# Altium schematic symbol library ON Semi JFETs.SchLib: 93 symbols (part 2 of 2)
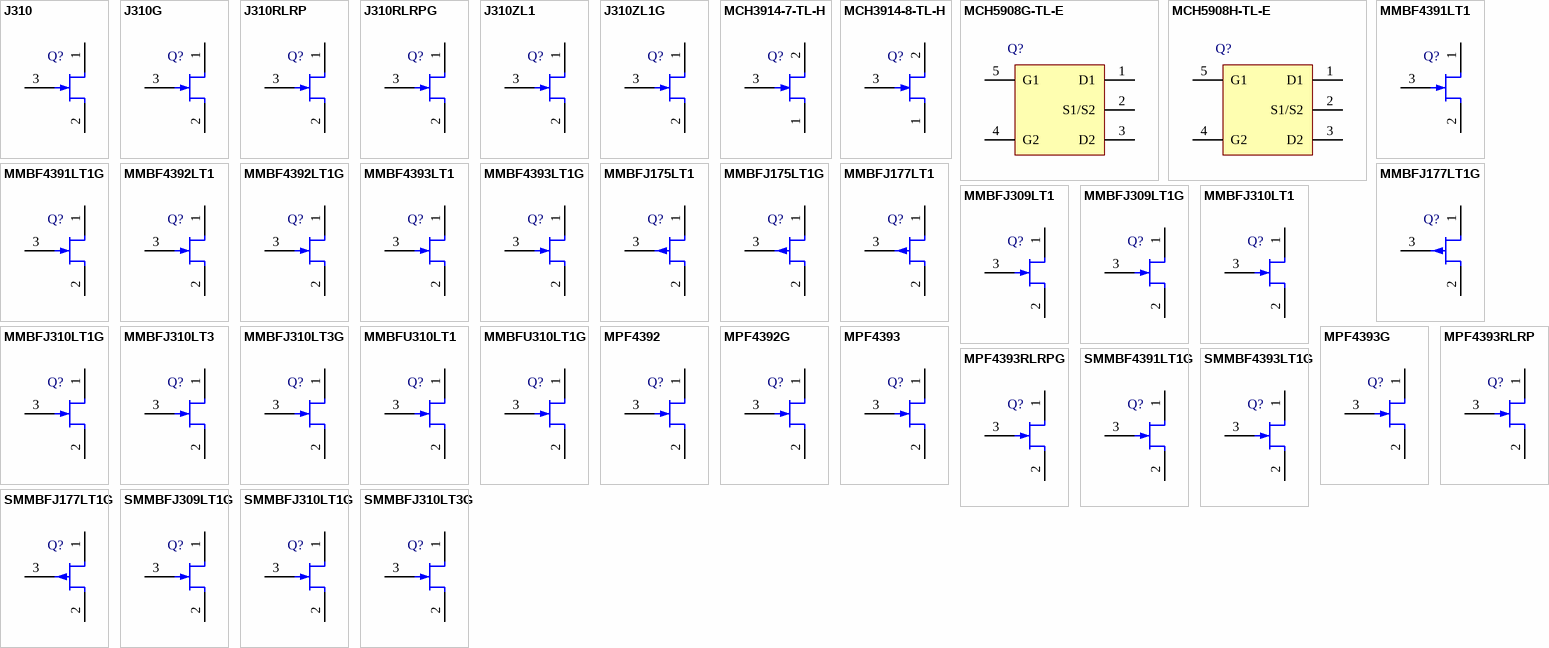
[diagram p3: symbols J310 to SMMBFJ310LT3G]

## MCH5908H-TL-E
designator Q?
N-Channel JFET, 15 V, 16 to 32 mA, 35 mS, 5-Pin MCPH, Pb-Free, Tape and Reel; Manufacturer: On Semiconductor; PartNumber: MCH5908H-TL-E; Channel Polarity: N Channel; IDSS Max (uA): 32000; IDSS Min (uA): 16000; V(BR)GSS Min (V): 15; PackageReference: MCPH-5; PackageDescription: 5-Pin Small Outline Transistor, Body 2 x 1.6 mm, Pitch 0.65 mm; Supplier 1: Digi-Key; Supplier Part Number 1: MCH5908H-TL-E-ND; Supplier 2: Mouser; Supplier Part Number 2: 863-MCH5908H-TL-E; Packing: Tape and Reel; RoHS: Pb-Free; Mounting Technology: Surface Mount; ComponentLink1Description: Manufacturer URL; ComponentLink1URL: http://www.onsemi.com/; ComponentLink2Description: Datasheet; ComponentLink2URL: http://www.onsemi.com/pub_link/Collateral/ENA1218-D.PDF; ComponentLink3Description: Package Specification; ComponentLink3URL: http://www.onsemi.com/pub_link/Collateral/ENA1218-D.PDF
footprint ONSC-MCPH-5_V (SOT23, 5-Leads, Body 2x1.6mm, Pitch 0.65mm)
pins: 1 D1, 2 S1/S2, 3 D2, 4 G2, 5 G1

## MMBF4391LT1
designator Q?
JFET Switching Transistor, N-Channel, 3-Pin SOT-23, Tape and Reel; Manufacturer: On Semiconductor; PartNumber: MMBF4391LT1; Channel Polarity: N Channel; Ciss Max (pF): 14; Crss Max (pF): 3.5; IDSS Max (uA): 150000; IDSS Min (uA): 50000; V(BR)GSS Min (V): 30; DatasheetVersion: Rev. 10; PackageVersion: Rev. AP, 11/2009; PackageReference: SOT-23-3-318-08; PackageDescription: 3-Pin Small Outline Transistor, Body 2.92 x 1.3 mm, Pitch 0.95 mm; Supplier 1: Digi-Key; Supplier Part Number 1: MMBF4391LT1OSCT-ND; Packing: Tape and Reel; Mounting Technology: Surface Mount; ComponentLink1Description: Manufacturer URL; ComponentLink1URL: http://www.onsemi.com/; ComponentLink2Description: Datasheet; ComponentLink2URL: http://www.onsemi.com/pub_link/Collateral/MMBF4391LT1-D.PDF; ComponentLink3Description: Package Specification; ComponentLink3URL: http://www.onsemi.cn/pub_link/Collateral/318-08.PDF
footprint ONSC-SOT-23-3-318-08_V (SOT23, 3-Leads, Body 2.92x1.3mm, Pitch 0.95mm)
pins: 1 D, 2 S, 3 G

## MMBF4391LT1G
designator Q?
JFET Switching Transistor, N-Channel, 3-Pin SOT-23, Pb-Free, Tape and Reel; Manufacturer: On Semiconductor; PartNumber: MMBF4391LT1G; Channel Polarity: N Channel; Ciss Max (pF): 14; Crss Max (pF): 3.5; IDSS Max (uA): 150000; IDSS Min (uA): 50000; V(BR)GSS Min (V): 30; DatasheetVersion: Rev. 10; PackageVersion: Rev. AP, 11/2009; PackageReference: SOT-23-3-318-08; PackageDescription: 3-Pin Small Outline Transistor, Body 2.92 x 1.3 mm, Pitch 0.95 mm; Supplier 1: Digi-Key; Supplier Part Number 1: MMBF4391LT1GOSTR-ND; Supplier 2: Digi-Key; Supplier Part Number 2: MMBF4391LT1GOSCT-ND; Supplier 3: Digi-Key; Supplier Part Number 3: MMBF4391LT1GOSDKR-ND; Supplier 4: Farnell; Supplier Part Number 4: 1431329RL; Supplier 5: Newark; Supplier Part Number 5: 45J1523; Supplier 6: Mouser; Supplier Part Number 6: 863-MMBF4391LT1G; Packing: Tape and Reel; RoHS: Pb-Free; Mounting Technology: Surface Mount; ComponentLink1Description: Manufacturer URL; ComponentLink1URL: http://www.onsemi.com/; ComponentLink2Description: Datasheet; ComponentLink2URL: http://www.onsemi.com/pub_link/Collateral/MMBF4391LT1-D.PDF; ComponentLink3Description: Package Specification; ComponentLink3URL: http://www.onsemi.cn/pub_link/Collateral/318-08.PDF
footprint ONSC-SOT-23-3-318-08_V (SOT23, 3-Leads, Body 2.92x1.3mm, Pitch 0.95mm)
pins: 1 D, 2 S, 3 G

## MMBF4392LT1
designator Q?
JFET Switching Transistor, N-Channel, 3-Pin SOT-23, Tape and Reel; Manufacturer: On Semiconductor; PartNumber: MMBF4392LT1; Channel Polarity: N Channel; Ciss Max (pF): 14; Crss Max (pF): 3.5; IDSS Max (uA): 75000; IDSS Min (uA): 25000; V(BR)GSS Min (V): 30; DatasheetVersion: Rev. 10; PackageVersion: Rev. AP, 11/2009; PackageReference: SOT-23-3-318-08; PackageDescription: 3-Pin Small Outline Transistor, Body 2.92 x 1.3 mm, Pitch 0.95 mm; Supplier 1: Digi-Key; Supplier Part Number 1: MMBF4392LT1OSCT-ND; Packing: Tape and Reel; Mounting Technology: Surface Mount; ComponentLink1Description: Manufacturer URL; ComponentLink1URL: http://www.onsemi.com/; ComponentLink2Description: Datasheet; ComponentLink2URL: http://www.onsemi.com/pub_link/Collateral/MMBF4391LT1-D.PDF; ComponentLink3Description: Package Specification; ComponentLink3URL: http://www.onsemi.cn/pub_link/Collateral/318-08.PDF
footprint ONSC-SOT-23-3-318-08_V (SOT23, 3-Leads, Body 2.92x1.3mm, Pitch 0.95mm)
pins: 1 D, 2 S, 3 G

## MMBF4392LT1G
designator Q?
JFET Switching Transistor, N-Channel, 3-Pin SOT-23, Pb-Free, Tape and Reel; Manufacturer: On Semiconductor; PartNumber: MMBF4392LT1G; Channel Polarity: N Channel; Ciss Max (pF): 14; Crss Max (pF): 3.5; IDSS Max (uA): 75000; IDSS Min (uA): 25000; V(BR)GSS Min (V): 30; DatasheetVersion: Rev. 10; PackageVersion: Rev. AP, 11/2009; PackageReference: SOT-23-3-318-08; PackageDescription: 3-Pin Small Outline Transistor, Body 2.92 x 1.3 mm, Pitch 0.95 mm; Supplier 1: Digi-Key; Supplier Part Number 1: MMBF4392LT1GOSTR-ND; Supplier 2: Digi-Key; Supplier Part Number 2: MMBF4392LT1GOSCT-ND; Supplier 3: Digi-Key; Supplier Part Number 3: MMBF4392LT1GOSDKR-ND; Supplier 4: Farnell; Supplier Part Number 4: 1431331RL; Supplier 5: Farnell; Supplier Part Number 5: 1431331; Supplier 6: Newark; Supplier Part Number 6: 71J5987; Supplier 7: Mouser; Supplier Part Number 7: 863-MMBF4392LT1G; Packing: Tape and Reel; RoHS: Pb-Free; Mounting Technology: Surface Mount; ComponentLink1Description: Manufacturer URL; ComponentLink1URL: http://www.onsemi.com/; ComponentLink2Description: Datasheet; ComponentLink2URL: http://www.onsemi.com/pub_link/Collateral/MMBF4391LT1-D.PDF; ComponentLink3Description: Package Specification; ComponentLink3URL: http://www.onsemi.cn/pub_link/Collateral/318-08.PDF
footprint ONSC-SOT-23-3-318-08_V (SOT23, 3-Leads, Body 2.92x1.3mm, Pitch 0.95mm)
pins: 1 D, 2 S, 3 G

## MMBF4393LT1
designator Q?
JFET Switching Transistor, N-Channel, 3-Pin SOT-23, Tape and Reel; Manufacturer: On Semiconductor; PartNumber: MMBF4393LT1; Channel Polarity: N Channel; Ciss Max (pF): 14; Crss Max (pF): 3.5; IDSS Max (uA): 30000; IDSS Min (uA): 5000; V(BR)GSS Min (V): 30; DatasheetVersion: Rev. 10; PackageVersion: Rev. AP, 11/2009; PackageReference: SOT-23-3-318-08; PackageDescription: 3-Pin Small Outline Transistor, Body 2.92 x 1.3 mm, Pitch 0.95 mm; Supplier 1: Digi-Key; Supplier Part Number 1: MMBF4393LT1OSCT-ND; Packing: Tape and Reel; Mounting Technology: Surface Mount; ComponentLink1Description: Manufacturer URL; ComponentLink1URL: http://www.onsemi.com/; ComponentLink2Description: Datasheet; ComponentLink2URL: http://www.onsemi.com/pub_link/Collateral/MMBF4391LT1-D.PDF; ComponentLink3Description: Package Specification; ComponentLink3URL: http://www.onsemi.cn/pub_link/Collateral/318-08.PDF
footprint ONSC-SOT-23-3-318-08_V (SOT23, 3-Leads, Body 2.92x1.3mm, Pitch 0.95mm)
pins: 1 D, 2 S, 3 G

## MMBF4393LT1G
designator Q?
JFET Switching Transistor, N-Channel, 3-Pin SOT-23, Pb-Free, Tape and Reel; Manufacturer: On Semiconductor; PartNumber: MMBF4393LT1G; Channel Polarity: N Channel; Ciss Max (pF): 14; Crss Max (pF): 3.5; IDSS Max (uA): 30000; IDSS Min (uA): 5000; V(BR)GSS Min (V): 30; DatasheetVersion: Rev. 10; PackageVersion: Rev. AP, 11/2009; PackageReference: SOT-23-3-318-08; PackageDescription: 3-Pin Small Outline Transistor, Body 2.92 x 1.3 mm, Pitch 0.95 mm; Supplier 1: Digi-Key; Supplier Part Number 1: MMBF4393LT1GOSTR-ND; Supplier 2: Digi-Key; Supplier Part Number 2: MMBF4393LT1GOSCT-ND; Supplier 3: Digi-Key; Supplier Part Number 3: MMBF4393LT1GOSDKR-ND; Supplier 4: Farnell; Supplier Part Number 4: 1431332RL; Supplier 5: Farnell; Supplier Part Number 5: 1431332; Supplier 6: Newark; Supplier Part Number 6: 45J1524; Supplier 7: Mouser; Supplier Part Number 7: 863-MMBF4393LT1G; Packing: Tape and Reel; RoHS: Pb-Free; Mounting Technology: Surface Mount; ComponentLink1Description: Manufacturer URL; ComponentLink1URL: http://www.onsemi.com/; ComponentLink2Description: Datasheet; ComponentLink2URL: http://www.onsemi.com/pub_link/Collateral/MMBF4391LT1-D.PDF; ComponentLink3Description: Package Specification; ComponentLink3URL: http://www.onsemi.cn/pub_link/Collateral/318-08.PDF
footprint ONSC-SOT-23-3-318-08_V (SOT23, 3-Leads, Body 2.92x1.3mm, Pitch 0.95mm)
pins: 1 D, 2 S, 3 G

## MMBFJ175LT1
designator Q?
JFET Chopper, P-Channel - Depletion, 3-Pin SOT-23, Tape and Reel; Manufacturer: On Semiconductor; PartNumber: MMBFJ175LT1; Channel Polarity: P Channel; Ciss Max (pF): 11; Crss Max (pF): 5.5; IDSS Max (uA): 60000; IDSS Min (uA): 7000; V(BR)GSS Min (V): 30; DatasheetVersion: Rev. 5; PackageVersion: Rev. AP, 11/2009; PackageReference: SOT-23-3-318-08; PackageDescription: 3-Pin Small Outline Transistor, Body 2.92 x 1.3 mm, Pitch 0.95 mm; Supplier 1: Digi-Key; Supplier Part Number 1: MMBFJ175LT1OSCT-ND; Packing: Tape and Reel; Mounting Technology: Surface Mount; ComponentLink1Description: Manufacturer URL; ComponentLink1URL: http://www.onsemi.com/; ComponentLink2Description: Datasheet; ComponentLink2URL: http://www.onsemi.com/pub_link/Collateral/MMBFJ175LT1-D.PDF; ComponentLink3Description: Package Specification; ComponentLink3URL: http://www.onsemi.cn/pub_link/Collateral/318-08.PDF
footprint ONSC-SOT-23-3-318-08_V (SOT23, 3-Leads, Body 2.92x1.3mm, Pitch 0.95mm)
pins: 1 D, 2 S, 3 G

## MMBFJ175LT1G
designator Q?
JFET Chopper, P-Channel - Depletion, 3-Pin SOT-23, Pb-Free, Tape and Reel; Manufacturer: On Semiconductor; PartNumber: MMBFJ175LT1G; Channel Polarity: P Channel; Ciss Max (pF): 11; Crss Max (pF): 5.5; IDSS Max (uA): 60000; IDSS Min (uA): 7000; V(BR)GSS Min (V): 30; DatasheetVersion: Rev. 5; PackageVersion: Rev. AP, 11/2009; PackageReference: SOT-23-3-318-08; PackageDescription: 3-Pin Small Outline Transistor, Body 2.92 x 1.3 mm, Pitch 0.95 mm; Supplier 1: Digi-Key; Supplier Part Number 1: MMBFJ175LT1GOSTR-ND; Supplier 2: Digi-Key; Supplier Part Number 2: MMBFJ175LT1GOSCT-ND; Supplier 3: Digi-Key; Supplier Part Number 3: MMBFJ175LT1GOSDKR-ND; Supplier 4: Newark; Supplier Part Number 4: 45J1517; Supplier 5: Mouser; Supplier Part Number 5: 863-MMBFJ175LT1G; Packing: Tape and Reel; RoHS: Pb-Free; Mounting Technology: Surface Mount; ComponentLink1Description: Manufacturer URL; ComponentLink1URL: http://www.onsemi.com/; ComponentLink2Description: Datasheet; ComponentLink2URL: http://www.onsemi.com/pub_link/Collateral/MMBFJ175LT1-D.PDF; ComponentLink3Description: Package Specification; ComponentLink3URL: http://www.onsemi.cn/pub_link/Collateral/318-08.PDF
footprint ONSC-SOT-23-3-318-08_V (SOT23, 3-Leads, Body 2.92x1.3mm, Pitch 0.95mm)
pins: 1 D, 2 S, 3 G

## MMBFJ177LT1
designator Q?
JFET Chopper, P-Channel - Depletion, 3-Pin SOT-23, Tape and Reel; Manufacturer: On Semiconductor; PartNumber: MMBFJ177LT1; Channel Polarity: P Channel; Ciss Max (pF): 11; Crss Max (pF): 5.5; IDSS Max (uA): 20000; IDSS Min (uA): 1500; V(BR)GSS Min (V): 30; DatasheetVersion: Rev. 5; PackageVersion: Rev. AP, 11/2009; PackageReference: SOT-23-3-318-08; PackageDescription: 3-Pin Small Outline Transistor, Body 2.92 x 1.3 mm, Pitch 0.95 mm; Supplier 1: Digi-Key; Supplier Part Number 1: MMBFJ177LT1OSCT-ND; Packing: Tape and Reel; Mounting Technology: Surface Mount; ComponentLink1Description: Manufacturer URL; ComponentLink1URL: http://www.onsemi.com/; ComponentLink2Description: Datasheet; ComponentLink2URL: http://www.onsemi.com/pub_link/Collateral/MMBFJ177LT1-D.PDF; ComponentLink3Description: Package Specification; ComponentLink3URL: http://www.onsemi.cn/pub_link/Collateral/318-08.PDF
footprint ONSC-SOT-23-3-318-08_V (SOT23, 3-Leads, Body 2.92x1.3mm, Pitch 0.95mm)
pins: 1 D, 2 S, 3 G

## MMBFJ177LT1G
designator Q?
JFET Chopper, P-Channel - Depletion, 3-Pin SOT-23, Pb-Free, Tape and Reel; Manufacturer: On Semiconductor; PartNumber: MMBFJ177LT1G; Channel Polarity: P Channel; Ciss Max (pF): 11; Crss Max (pF): 5.5; IDSS Max (uA): 20000; IDSS Min (uA): 1500; V(BR)GSS Min (V): 30; DatasheetVersion: Rev. 5; PackageVersion: Rev. AP, 11/2009; PackageReference: SOT-23-3-318-08; PackageDescription: 3-Pin Small Outline Transistor, Body 2.92 x 1.3 mm, Pitch 0.95 mm; Supplier 1: Digi-Key; Supplier Part Number 1: MMBFJ177LT1GOSTR-ND; Supplier 2: Digi-Key; Supplier Part Number 2: MMBFJ177LT1GOSCT-ND; Supplier 3: Digi-Key; Supplier Part Number 3: MMBFJ177LT1GOSDKR-ND; Supplier 4: Farnell; Supplier Part Number 4: 1431338RL; Supplier 5: Farnell; Supplier Part Number 5: 1431338; Supplier 6: Farnell; Supplier Part Number 6: 2370814; Supplier 7: Newark; Supplier Part Number 7: 67R1327; Supplier 8: Newark; Supplier Part Number 8: 45J1518; Supplier 9: Mouser; Supplier Part Number 9: 863-MMBFJ177LT1G; Packing: Tape and Reel; RoHS: Pb-Free; Mounting Technology: Surface Mount; ComponentLink1Description: Manufacturer URL; ComponentLink1URL: http://www.onsemi.com/; ComponentLink2Description: Datasheet; ComponentLink2URL: http://www.onsemi.com/pub_link/Collateral/MMBFJ177LT1-D.PDF; ComponentLink3Description: Package Specification; ComponentLink3URL: http://www.onsemi.cn/pub_link/Collateral/318-08.PDF
footprint ONSC-SOT-23-3-318-08_V (SOT23, 3-Leads, Body 2.92x1.3mm, Pitch 0.95mm)
pins: 1 D, 2 S, 3 G

## MMBFJ309LT1
designator Q?
JFET - VHF / UHF Amplifier Transistor, N-Channel, 3-Pin SOT-23, Tape and Reel; Manufacturer: On Semiconductor; PartNumber: MMBFJ309LT1; Channel Polarity: N Channel; Ciss Max (pF): 5; Crss Max (pF): 2.5; IDSS Max (uA): 30000; IDSS Min (uA): 12000; V(BR)GSS Min (V): 25; DatasheetVersion: Rev. 7; PackageVersion: Rev. AP, 11/2009; PackageReference: SOT-23-3-318-08; PackageDescription: 3-Pin Small Outline Transistor, Body 2.92 x 1.3 mm, Pitch 0.95 mm; Supplier 1: Digi-Key; Supplier Part Number 1: MMBFJ309LT1OSCT-ND; Packing: Tape and Reel; Mounting Technology: Surface Mount; ComponentLink1Description: Manufacturer URL; ComponentLink1URL: http://www.onsemi.com/; ComponentLink2Description: Datasheet; ComponentLink2URL: http://www.onsemi.cn/pub_link/Collateral/MMBFJ309LT1-D.PDF; ComponentLink3Description: Package Specification; ComponentLink3URL: http://www.onsemi.cn/pub_link/Collateral/318-08.PDF
footprint ONSC-SOT-23-3-318-08_V (SOT23, 3-Leads, Body 2.92x1.3mm, Pitch 0.95mm)
pins: 1 D, 2 S, 3 G

## MMBFJ309LT1G
designator Q?
JFET - VHF / UHF Amplifier Transistor, N-Channel, 3-Pin SOT-23, Pb-Free, Tape and Reel; Manufacturer: On Semiconductor; PartNumber: MMBFJ309LT1G; Channel Polarity: N Channel; Ciss Max (pF): 5; Crss Max (pF): 2.5; IDSS Max (uA): 30000; IDSS Min (uA): 12000; V(BR)GSS Min (V): 25; DatasheetVersion: Rev. 7; PackageVersion: Rev. AP, 11/2009; PackageReference: SOT-23-3-318-08; PackageDescription: 3-Pin Small Outline Transistor, Body 2.92 x 1.3 mm, Pitch 0.95 mm; Supplier 1: Digi-Key; Supplier Part Number 1: MMBFJ309LT1GOSTR-ND; Supplier 2: Digi-Key; Supplier Part Number 2: MMBFJ309LT1GOSCT-ND; Supplier 3: Digi-Key; Supplier Part Number 3: MMBFJ309LT1GOSDKR-ND; Supplier 4: Farnell; Supplier Part Number 4: 1431339RL; Supplier 5: Farnell; Supplier Part Number 5: 1431339; Supplier 6: Newark; Supplier Part Number 6: 58M9122; Supplier 7: Newark; Supplier Part Number 7: 45J1519; Supplier 8: Mouser; Supplier Part Number 8: 863-MMBFJ309LT1G; Packing: Tape and Reel; RoHS: Pb-Free; Mounting Technology: Surface Mount; ComponentLink1Description: Manufacturer URL; ComponentLink1URL: http://www.onsemi.com/; ComponentLink2Description: Datasheet; ComponentLink2URL: http://www.onsemi.cn/pub_link/Collateral/MMBFJ309LT1-D.PDF; ComponentLink3Description: Package Specification; ComponentLink3URL: http://www.onsemi.cn/pub_link/Collateral/318-08.PDF
footprint ONSC-SOT-23-3-318-08_V (SOT23, 3-Leads, Body 2.92x1.3mm, Pitch 0.95mm)
pins: 1 D, 2 S, 3 G

## MMBFJ310LT1
designator Q?
JFET - VHF / UHF Amplifier Transistor, N-Channel, 3-Pin SOT-23, Tape and Reel; Manufacturer: On Semiconductor; PartNumber: MMBFJ310LT1; Channel Polarity: N Channel; Ciss Max (pF): 5; Crss Max (pF): 2.5; IDSS Max (uA): 60000; IDSS Min (uA): 24000; V(BR)GSS Min (V): 25; DatasheetVersion: Rev. 7; PackageVersion: Rev. AP, 11/2009; PackageReference: SOT-23-3-318-08; PackageDescription: 3-Pin Small Outline Transistor, Body 2.92 x 1.3 mm, Pitch 0.95 mm; Supplier 1: Digi-Key; Supplier Part Number 1: MMBFJ310LT1OSCT-ND; Packing: Tape and Reel; Mounting Technology: Surface Mount; ComponentLink1Description: Manufacturer URL; ComponentLink1URL: http://www.onsemi.com/; ComponentLink2Description: Datasheet; ComponentLink2URL: http://www.onsemi.cn/pub_link/Collateral/MMBFJ309LT1-D.PDF; ComponentLink3Description: Package Specification; ComponentLink3URL: http://www.onsemi.cn/pub_link/Collateral/318-08.PDF
footprint ONSC-SOT-23-3-318-08_V (SOT23, 3-Leads, Body 2.92x1.3mm, Pitch 0.95mm)
pins: 1 D, 2 S, 3 G

## MMBFJ310LT1G
designator Q?
JFET - VHF / UHF Amplifier Transistor, N-Channel, 3-Pin SOT-23, Pb-Free, Tape and Reel; Manufacturer: On Semiconductor; PartNumber: MMBFJ310LT1G; Channel Polarity: N Channel; Ciss Max (pF): 5; Crss Max (pF): 2.5; IDSS Max (uA): 60000; IDSS Min (uA): 24000; V(BR)GSS Min (V): 25; DatasheetVersion: Rev. 7; PackageVersion: Rev. AP, 11/2009; PackageReference: SOT-23-3-318-08; PackageDescription: 3-Pin Small Outline Transistor, Body 2.92 x 1.3 mm, Pitch 0.95 mm; Supplier 1: Digi-Key; Supplier Part Number 1: MMBFJ310LT1GOSTR-ND; Supplier 2: Digi-Key; Supplier Part Number 2: MMBFJ310LT1GOSCT-ND; Supplier 3: Digi-Key; Supplier Part Number 3: MMBFJ310LT1GOSDKR-ND; Supplier 4: Farnell; Supplier Part Number 4: 1431340; Supplier 5: Farnell; Supplier Part Number 5: 1431340RL; Supplier 6: Newark; Supplier Part Number 6: 45J1520; Supplier 7: Mouser; Supplier Part Number 7: 863-MMBFJ310LT1G; Packing: Tape and Reel; RoHS: Pb-Free; Mounting Technology: Surface Mount; ComponentLink1Description: Manufacturer URL; ComponentLink1URL: http://www.onsemi.com/; ComponentLink2Description: Datasheet; ComponentLink2URL: http://www.onsemi.cn/pub_link/Collateral/MMBFJ309LT1-D.PDF; ComponentLink3Description: Package Specification; ComponentLink3URL: http://www.onsemi.cn/pub_link/Collateral/318-08.PDF
footprint ONSC-SOT-23-3-318-08_V (SOT23, 3-Leads, Body 2.92x1.3mm, Pitch 0.95mm)
pins: 1 D, 2 S, 3 G

## MMBFJ310LT3
designator Q?
JFET - VHF / UHF Amplifier Transistor, N-Channel, 3-Pin SOT-23, Tape and Reel; Manufacturer: On Semiconductor; PartNumber: MMBFJ310LT3; Channel Polarity: N Channel; Ciss Max (pF): 5; Crss Max (pF): 2.5; IDSS Max (uA): 60000; IDSS Min (uA): 24000; V(BR)GSS Min (V): 25; DatasheetVersion: Rev. 7; PackageVersion: Rev. AP, 11/2009; PackageReference: SOT-23-3-318-08; PackageDescription: 3-Pin Small Outline Transistor, Body 2.92 x 1.3 mm, Pitch 0.95 mm; Packing: Tape and Reel; Mounting Technology: Surface Mount; ComponentLink1Description: Manufacturer URL; ComponentLink1URL: http://www.onsemi.com/; ComponentLink2Description: Datasheet; ComponentLink2URL: http://www.onsemi.cn/pub_link/Collateral/MMBFJ309LT1-D.PDF; ComponentLink3Description: Package Specification; ComponentLink3URL: http://www.onsemi.cn/pub_link/Collateral/318-08.PDF
footprint ONSC-SOT-23-3-318-08_V (SOT23, 3-Leads, Body 2.92x1.3mm, Pitch 0.95mm)
pins: 1 D, 2 S, 3 G

## MMBFJ310LT3G
designator Q?
JFET - VHF / UHF Amplifier Transistor, N-Channel, 3-Pin SOT-23, Pb-Free, Tape and Reel; Manufacturer: On Semiconductor; PartNumber: MMBFJ310LT3G; Channel Polarity: N Channel; Ciss Max (pF): 5; Crss Max (pF): 2.5; IDSS Max (uA): 60000; IDSS Min (uA): 24000; V(BR)GSS Min (V): 25; DatasheetVersion: Rev. 7; PackageVersion: Rev. AP, 11/2009; PackageReference: SOT-23-3-318-08; PackageDescription: 3-Pin Small Outline Transistor, Body 2.92 x 1.3 mm, Pitch 0.95 mm; Supplier 1: Digi-Key; Supplier Part Number 1: MMBFJ310LT3G-ND; Supplier 2: Newark; Supplier Part Number 2: 42K1331; Supplier 3: Mouser; Supplier Part Number 3: 863-MMBFJ310LT3G; Packing: Tape and Reel; RoHS: Pb-Free; Mounting Technology: Surface Mount; ComponentLink1Description: Manufacturer URL; ComponentLink1URL: http://www.onsemi.com/; ComponentLink2Description: Datasheet; ComponentLink2URL: http://www.onsemi.cn/pub_link/Collateral/MMBFJ309LT1-D.PDF; ComponentLink3Description: Package Specification; ComponentLink3URL: http://www.onsemi.cn/pub_link/Collateral/318-08.PDF
footprint ONSC-SOT-23-3-318-08_V (SOT23, 3-Leads, Body 2.92x1.3mm, Pitch 0.95mm)
pins: 1 D, 2 S, 3 G

## MMBFU310LT1
designator Q?
JFET Transistor, N-Channel, 3-Pin SOT-23, Tape and Reel; Manufacturer: On Semiconductor; PartNumber: MMBFU310LT1; Channel Polarity: N Channel; Ciss Max (pF): 5; Crss Max (pF): 2.5; IDSS Max (uA): 60000; IDSS Min (uA): 24000; V(BR)GSS Min (V): 25; DatasheetVersion: Rev. 5; PackageVersion: Rev. AP, 11/2009; PackageReference: SOT-23-3-318-08; PackageDescription: 3-Pin Small Outline Transistor, Body 2.92 x 1.3 mm, Pitch 0.95 mm; Supplier 1: Digi-Key; Supplier Part Number 1: MMBFU310LT1OSCT-ND; Packing: Tape and Reel; Mounting Technology: Surface Mount; ComponentLink1Description: Manufacturer URL; ComponentLink1URL: http://www.onsemi.com/; ComponentLink2Description: Datasheet; ComponentLink2URL: http://www.onsemi.com/pub_link/Collateral/MMBFU310LT1-D.PDF; ComponentLink3Description: Package Specification; ComponentLink3URL: http://www.onsemi.cn/pub_link/Collateral/318-08.PDF
footprint ONSC-SOT-23-3-318-08_V (SOT23, 3-Leads, Body 2.92x1.3mm, Pitch 0.95mm)
pins: 1 D, 2 S, 3 G

## MMBFU310LT1G
designator Q?
JFET Transistor, N-Channel, 3-Pin SOT-23, Pb-Free, Tape and Reel; Manufacturer: On Semiconductor; PartNumber: MMBFU310LT1G; Channel Polarity: N Channel; Ciss Max (pF): 5; Crss Max (pF): 2.5; IDSS Max (uA): 60000; IDSS Min (uA): 24000; V(BR)GSS Min (V): 25; DatasheetVersion: Rev. 5; PackageVersion: Rev. AP, 11/2009; PackageReference: SOT-23-3-318-08; PackageDescription: 3-Pin Small Outline Transistor, Body 2.92 x 1.3 mm, Pitch 0.95 mm; Supplier 1: Digi-Key; Supplier Part Number 1: MMBFU310LT1GOSTR-ND; Supplier 2: Digi-Key; Supplier Part Number 2: MMBFU310LT1GOSCT-ND; Supplier 3: Digi-Key; Supplier Part Number 3: MMBFU310LT1GOSDKR-ND; Supplier 4: Farnell; Supplier Part Number 4: 1431342; Supplier 5: Farnell; Supplier Part Number 5: 1431342RL; Supplier 6: Newark; Supplier Part Number 6: 45J1521; Supplier 7: Mouser; Supplier Part Number 7: 863-MMBFU310LT1G; Packing: Tape and Reel; RoHS: Pb-Free; Mounting Technology: Surface Mount; ComponentLink1Description: Manufacturer URL; ComponentLink1URL: http://www.onsemi.com/; ComponentLink2Description: Datasheet; ComponentLink2URL: http://www.onsemi.com/pub_link/Collateral/MMBFU310LT1-D.PDF; ComponentLink3Description: Package Specification; ComponentLink3URL: http://www.onsemi.cn/pub_link/Collateral/318-08.PDF
footprint ONSC-SOT-23-3-318-08_V (SOT23, 3-Leads, Body 2.92x1.3mm, Pitch 0.95mm)
pins: 1 D, 2 S, 3 G

## MPF4392
designator Q?
JFET Switching Transistor, N-Channel - Depletion, 3-Pin TO-92, Bulk Box; Manufacturer: On Semiconductor; PartNumber: MPF4392; Channel Polarity: N Channel; Ciss Max (pF): 10; Crss Max (pF): 3.5; IDSS Max (uA): 75000; IDSS Min (uA): 25000; V(BR)GSS Min (V): 30; DatasheetVersion: Rev. 6; PackageVersion: Rev. AM; PackageReference: TO-92-3-29-11_AM_SL; PackageDescription: 3-Pin Transistor Outline, Body 4.825 x 3.685 mm, Pitch 1.27 mm; Supplier 1: Digi-Key; Supplier Part Number 1: MPF4392-ND; Supplier 2: Mouser; Supplier Part Number 2: 863-MPF4392; Packing: Bulk Box; Mounting Technology: Through Hole; ComponentLink1Description: Manufacturer URL; ComponentLink1URL: http://www.onsemi.com/; ComponentLink2Description: Datasheet; ComponentLink2URL: http://www.onsemi.com/pub_link/Collateral/MPF4392-D.PDF; ComponentLink3Description: Package Specification; ComponentLink3URL: http://www.onsemi.cn/pub_link/Collateral/2N6426-D.PDF
footprint ONSC-TO-92-3-29-11 (TO, 3-Leads, Body Dia 4.7mm, Pitch 1.27mm)
pins: 1 D, 2 S, 3 G

## MPF4392G
designator Q?
JFET Switching Transistor, N-Channel - Depletion, 3-Pin TO-92, Pb-Free, Bulk Box; Manufacturer: On Semiconductor; PartNumber: MPF4392G; Channel Polarity: N Channel; Ciss Max (pF): 10; Crss Max (pF): 3.5; IDSS Max (uA): 75000; IDSS Min (uA): 25000; V(BR)GSS Min (V): 30; DatasheetVersion: Rev. 6; PackageVersion: Rev. AM; PackageReference: TO-92-3-29-11_AM_SL; PackageDescription: 3-Pin Transistor Outline, Body 4.825 x 3.685 mm, Pitch 1.27 mm; Supplier 1: Digi-Key; Supplier Part Number 1: MPF4392G-ND; Supplier 2: Mouser; Supplier Part Number 2: 863-MPF4392G; Packing: Bulk Box; RoHS: Pb-Free; Mounting Technology: Through Hole; ComponentLink1Description: Manufacturer URL; ComponentLink1URL: http://www.onsemi.com/; ComponentLink2Description: Datasheet; ComponentLink2URL: http://www.onsemi.com/pub_link/Collateral/MPF4392-D.PDF; ComponentLink3Description: Package Specification; ComponentLink3URL: http://www.onsemi.cn/pub_link/Collateral/2N6426-D.PDF
footprint ONSC-TO-92-3-29-11 (TO, 3-Leads, Body Dia 4.7mm, Pitch 1.27mm)
pins: 1 D, 2 S, 3 G

## MPF4393
designator Q?
JFET Switching Transistor, N-Channel - Depletion, 3-Pin TO-92, Bulk Box; Manufacturer: On Semiconductor; PartNumber: MPF4393; Channel Polarity: N Channel; Ciss Max (pF): 10; Crss Max (pF): 3.5; IDSS Max (uA): 30000; IDSS Min (uA): 5000; V(BR)GSS Min (V): 30; DatasheetVersion: Rev. 6; PackageVersion: Rev. AM; PackageReference: TO-92-3-29-11_AM_SL; PackageDescription: 3-Pin Transistor Outline, Body 4.825 x 3.685 mm, Pitch 1.27 mm; Supplier 1: Digi-Key; Supplier Part Number 1: MPF4393-ND; Supplier 2: Newark; Supplier Part Number 2: 07F9487; Supplier 3: Mouser; Supplier Part Number 3: 863-MPF4393; Packing: Bulk Box; Mounting Technology: Through Hole; ComponentLink1Description: Manufacturer URL; ComponentLink1URL: http://www.onsemi.com/; ComponentLink2Description: Datasheet; ComponentLink2URL: http://www.onsemi.com/pub_link/Collateral/MPF4392-D.PDF; ComponentLink3Description: Package Specification; ComponentLink3URL: http://www.onsemi.cn/pub_link/Collateral/2N6426-D.PDF
footprint ONSC-TO-92-3-29-11 (TO, 3-Leads, Body Dia 4.7mm, Pitch 1.27mm)
pins: 1 D, 2 S, 3 G

## MPF4393G
designator Q?
JFET Switching Transistor, N-Channel - Depletion, 3-Pin TO-92, Pb-Free, Bulk Box; Manufacturer: On Semiconductor; PartNumber: MPF4393G; Channel Polarity: N Channel; Ciss Max (pF): 10; Crss Max (pF): 3.5; IDSS Max (uA): 30000; IDSS Min (uA): 5000; V(BR)GSS Min (V): 30; DatasheetVersion: Rev. 6; PackageVersion: Rev. AM; PackageReference: TO-92-3-29-11_AM_SL; PackageDescription: 3-Pin Transistor Outline, Body 4.825 x 3.685 mm, Pitch 1.27 mm; Supplier 1: Digi-Key; Supplier Part Number 1: MPF4393G-ND; Supplier 2: Mouser; Supplier Part Number 2: 863-MPF4393G; Packing: Bulk Box; RoHS: Pb-Free; Mounting Technology: Through Hole; ComponentLink1Description: Manufacturer URL; ComponentLink1URL: http://www.onsemi.com/; ComponentLink2Description: Datasheet; ComponentLink2URL: http://www.onsemi.com/pub_link/Collateral/MPF4392-D.PDF; ComponentLink3Description: Package Specification; ComponentLink3URL: http://www.onsemi.cn/pub_link/Collateral/2N6426-D.PDF
footprint ONSC-TO-92-3-29-11 (TO, 3-Leads, Body Dia 4.7mm, Pitch 1.27mm)
pins: 1 D, 2 S, 3 G

## MPF4393RLRP
designator Q?
JFET Switching Transistor, N-Channel - Depletion, 3-Pin TO-92, Fan-Fold; Manufacturer: On Semiconductor; PartNumber: MPF4393RLRP; Channel Polarity: N Channel; Ciss Max (pF): 10; Crss Max (pF): 3.5; IDSS Max (uA): 30000; IDSS Min (uA): 5000; V(BR)GSS Min (V): 30; DatasheetVersion: Rev. 6; PackageVersion: Rev. AM; PackageReference: TO-92-3-29-11_AM_SL; PackageDescription: 3-Pin Transistor Outline, Body 4.825 x 3.685 mm, Pitch 1.27 mm; Packing: Fan-Fold; Mounting Technology: Through Hole; ComponentLink1Description: Manufacturer URL; ComponentLink1URL: http://www.onsemi.com/; ComponentLink2Description: Datasheet; ComponentLink2URL: http://www.onsemi.com/pub_link/Collateral/MPF4392-D.PDF; ComponentLink3Description: Package Specification; ComponentLink3URL: http://www.onsemi.cn/pub_link/Collateral/2N6426-D.PDF
footprint ONSC-TO-92-3-29-11 (TO, 3-Leads, Body Dia 4.7mm, Pitch 1.27mm)
pins: 1 D, 2 S, 3 G

## MPF4393RLRPG
designator Q?
JFET Switching Transistor, N-Channel - Depletion, 3-Pin TO-92, Pb-Free, Fan-Fold; Manufacturer: On Semiconductor; PartNumber: MPF4393RLRPG; Channel Polarity: N Channel; Ciss Max (pF): 10; Crss Max (pF): 3.5; IDSS Max (uA): 30000; IDSS Min (uA): 5000; V(BR)GSS Min (V): 30; DatasheetVersion: Rev. 6; PackageVersion: Rev. AM; PackageReference: TO-92-3-29-11_AM_SL; PackageDescription: 3-Pin Transistor Outline, Body 4.825 x 3.685 mm, Pitch 1.27 mm; Supplier 1: Digi-Key; Supplier Part Number 1: MPF4393RLRPGOSTB-ND; Supplier 2: Digi-Key; Supplier Part Number 2: MPF4393RLRPGOSCT-ND; Supplier 3: Newark; Supplier Part Number 3: 42K1440; Supplier 4: Newark; Supplier Part Number 4: 85W2296; Supplier 5: Mouser; Supplier Part Number 5: 863-MPF4393RLRPG; Packing: Fan-Fold; RoHS: Pb-Free; Mounting Technology: Through Hole; ComponentLink1Description: Manufacturer URL; ComponentLink1URL: http://www.onsemi.com/; ComponentLink2Description: Datasheet; ComponentLink2URL: http://www.onsemi.com/pub_link/Collateral/MPF4392-D.PDF; ComponentLink3Description: Package Specification; ComponentLink3URL: http://www.onsemi.cn/pub_link/Collateral/2N6426-D.PDF
footprint ONSC-TO-92-3-29-11 (TO, 3-Leads, Body Dia 4.7mm, Pitch 1.27mm)
pins: 1 D, 2 S, 3 G

## SMMBF4391LT1G
designator Q?
JFET Switching Transistor, N-Channel, 3-Pin SOT-23, Pb-Free, Tape and Reel; Manufacturer: On Semiconductor; PartNumber: SMMBF4391LT1G; Channel Polarity: N Channel; Ciss Max (pF): 14; Crss Max (pF): 3.5; IDSS Max (uA): 150000; IDSS Min (uA): 50000; V(BR)GSS Min (V): 30; DatasheetVersion: Rev. 10; PackageVersion: Rev. AP, 11/2009; PackageReference: SOT-23-3-318-08; PackageDescription: 3-Pin Small Outline Transistor, Body 2.92 x 1.3 mm, Pitch 0.95 mm; Supplier 1: Digi-Key; Supplier Part Number 1: SMMBF4391LT1G-ND; Supplier 2: Mouser; Supplier Part Number 2: 863-SMMBF4391LT1G; Packing: Tape and Reel; RoHS: Pb-Free; Mounting Technology: Surface Mount; ComponentLink1Description: Manufacturer URL; ComponentLink1URL: http://www.onsemi.com/; ComponentLink2Description: Datasheet; ComponentLink2URL: http://www.onsemi.com/pub_link/Collateral/MMBF4391LT1-D.PDF; ComponentLink3Description: Package Specification; ComponentLink3URL: http://www.onsemi.cn/pub_link/Collateral/318-08.PDF
footprint ONSC-SOT-23-3-318-08_V (SOT23, 3-Leads, Body 2.92x1.3mm, Pitch 0.95mm)
pins: 1 D, 2 S, 3 G

## SMMBF4393LT1G
designator Q?
JFET Switching Transistor, N-Channel, 3-Pin SOT-23, Pb-Free, Tape and Reel; Manufacturer: On Semiconductor; PartNumber: SMMBF4393LT1G; Channel Polarity: N Channel; Ciss Max (pF): 14; Crss Max (pF): 3.5; IDSS Max (uA): 30000; IDSS Min (uA): 5000; V(BR)GSS Min (V): 30; DatasheetVersion: Rev. 10; PackageVersion: Rev. AP, 11/2009; PackageReference: SOT-23-3-318-08; PackageDescription: 3-Pin Small Outline Transistor, Body 2.92 x 1.3 mm, Pitch 0.95 mm; Supplier 1: Digi-Key; Supplier Part Number 1: SMMBF4393LT1G-ND; Supplier 2: Mouser; Supplier Part Number 2: 863-SMMBF4393LT1G; Packing: Tape and Reel; RoHS: Pb-Free; Mounting Technology: Surface Mount; ComponentLink1Description: Manufacturer URL; ComponentLink1URL: http://www.onsemi.com/; ComponentLink2Description: Datasheet; ComponentLink2URL: http://www.onsemi.com/pub_link/Collateral/MMBF4391LT1-D.PDF; ComponentLink3Description: Package Specification; ComponentLink3URL: http://www.onsemi.cn/pub_link/Collateral/318-08.PDF
footprint ONSC-SOT-23-3-318-08_V (SOT23, 3-Leads, Body 2.92x1.3mm, Pitch 0.95mm)
pins: 1 D, 2 S, 3 G

## SMMBFJ177LT1G
designator Q?
JFET Chopper, P-Channel - Depletion, 3-Pin SOT-23, Pb-Free, Tape and Reel; Manufacturer: On Semiconductor; PartNumber: SMMBFJ177LT1G; Channel Polarity: P Channel; Ciss Max (pF): 11; Crss Max (pF): 5.5; IDSS Max (uA): 20000; IDSS Min (uA): 1500; V(BR)GSS Min (V): 30; DatasheetVersion: Rev. 5; PackageVersion: Rev. AP, 11/2009; PackageReference: SOT-23-3-318-08; PackageDescription: 3-Pin Small Outline Transistor, Body 2.92 x 1.3 mm, Pitch 0.95 mm; Supplier 1: Mouser; Supplier Part Number 1: N/A; Packing: Tape and Reel; RoHS: Pb-Free; Mounting Technology: Surface Mount; ComponentLink1Description: Manufacturer URL; ComponentLink1URL: http://www.onsemi.com/; ComponentLink2Description: Datasheet; ComponentLink2URL: http://www.onsemi.com/pub_link/Collateral/MMBFJ177LT1-D.PDF; ComponentLink3Description: Package Specification; ComponentLink3URL: http://www.onsemi.cn/pub_link/Collateral/318-08.PDF
footprint ONSC-SOT-23-3-318-08_V (SOT23, 3-Leads, Body 2.92x1.3mm, Pitch 0.95mm)
pins: 1 D, 2 S, 3 G

## SMMBFJ309LT1G
designator Q?
JFET - VHF / UHF Amplifier Transistor, N-Channel, 3-Pin SOT-23, Pb-Free, Tape and Reel; Manufacturer: On Semiconductor; PartNumber: SMMBFJ309LT1G; Channel Polarity: N Channel; Ciss Max (pF): 5; Crss Max (pF): 2.5; IDSS Max (uA): 30000; IDSS Min (uA): 12000; V(BR)GSS Min (V): 25; DatasheetVersion: Rev. 7; PackageVersion: Rev. AP, 11/2009; PackageReference: SOT-23-3-318-08; PackageDescription: 3-Pin Small Outline Transistor, Body 2.92 x 1.3 mm, Pitch 0.95 mm; Packing: Tape and Reel; RoHS: Pb-Free; Mounting Technology: Surface Mount; ComponentLink1Description: Manufacturer URL; ComponentLink1URL: http://www.onsemi.com/; ComponentLink2Description: Datasheet; ComponentLink2URL: http://www.onsemi.cn/pub_link/Collateral/MMBFJ309LT1-D.PDF; ComponentLink3Description: Package Specification; ComponentLink3URL: http://www.onsemi.cn/pub_link/Collateral/318-08.PDF
footprint ONSC-SOT-23-3-318-08_V (SOT23, 3-Leads, Body 2.92x1.3mm, Pitch 0.95mm)
pins: 1 D, 2 S, 3 G

## SMMBFJ310LT1G
designator Q?
JFET - VHF / UHF Amplifier Transistor, N-Channel, 3-Pin SOT-23, Pb-Free, Tape and Reel; Manufacturer: On Semiconductor; PartNumber: SMMBFJ310LT1G; Channel Polarity: N Channel; Ciss Max (pF): 5; Crss Max (pF): 2.5; IDSS Max (uA): 60000; IDSS Min (uA): 24000; V(BR)GSS Min (V): 25; DatasheetVersion: Rev. 7; PackageVersion: Rev. AP, 11/2009; PackageReference: SOT-23-3-318-08; PackageDescription: 3-Pin Small Outline Transistor, Body 2.92 x 1.3 mm, Pitch 0.95 mm; Supplier 1: Digi-Key; Supplier Part Number 1: SMMBFJ310LT1G-ND; Supplier 2: Mouser; Supplier Part Number 2: 863-SMMBFJ310LT1G; Packing: Tape and Reel; RoHS: Pb-Free; Mounting Technology: Surface Mount; ComponentLink1Description: Manufacturer URL; ComponentLink1URL: http://www.onsemi.com/; ComponentLink2Description: Datasheet; ComponentLink2URL: http://www.onsemi.cn/pub_link/Collateral/MMBFJ309LT1-D.PDF; ComponentLink3Description: Package Specification; ComponentLink3URL: http://www.onsemi.cn/pub_link/Collateral/318-08.PDF
footprint ONSC-SOT-23-3-318-08_V (SOT23, 3-Leads, Body 2.92x1.3mm, Pitch 0.95mm)
pins: 1 D, 2 S, 3 G

## SMMBFJ310LT3G
designator Q?
JFET - VHF / UHF Amplifier Transistor, N-Channel, 3-Pin SOT-23, Pb-Free, Tape and Reel; Manufacturer: On Semiconductor; PartNumber: SMMBFJ310LT3G; Channel Polarity: N Channel; Ciss Max (pF): 5; Crss Max (pF): 2.5; IDSS Max (uA): 60000; IDSS Min (uA): 24000; V(BR)GSS Min (V): 25; DatasheetVersion: Rev. 7; PackageVersion: Rev. AP, 11/2009; PackageReference: SOT-23-3-318-08; PackageDescription: 3-Pin Small Outline Transistor, Body 2.92 x 1.3 mm, Pitch 0.95 mm; Supplier 1: Digi-Key; Supplier Part Number 1: SMMBFJ310LT3G-ND; Supplier 2: Mouser; Supplier Part Number 2: 863-SMMBFJ310LT3G; Packing: Tape and Reel; RoHS: Pb-Free; Mounting Technology: Surface Mount; ComponentLink1Description: Manufacturer URL; ComponentLink1URL: http://www.onsemi.com/; ComponentLink2Description: Datasheet; ComponentLink2URL: http://www.onsemi.cn/pub_link/Collateral/MMBFJ309LT1-D.PDF; ComponentLink3Description: Package Specification; ComponentLink3URL: http://www.onsemi.cn/pub_link/Collateral/318-08.PDF
footprint ONSC-SOT-23-3-318-08_V (SOT23, 3-Leads, Body 2.92x1.3mm, Pitch 0.95mm)
pins: 1 D, 2 S, 3 G

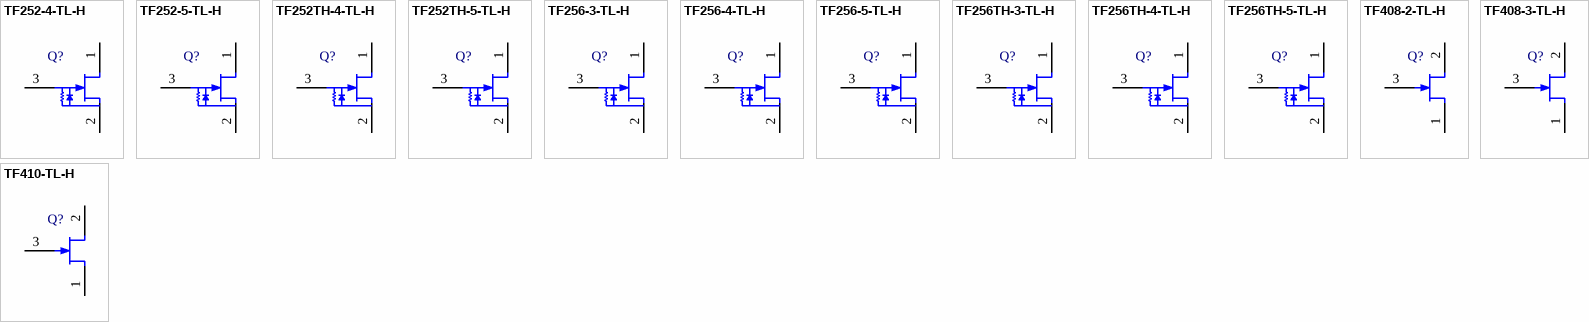
[diagram p2: symbols TF252-4-TL-H to TF410-TL-H]

## TF252-4-TL-H
designator Q?
N-Channel JFET, 20 V, 140 to 240 uA, 1.4 mS, 3-Pin USFP, Pb-Free, Tape and Reel; Manufacturer: On Semiconductor; PartNumber: TF252-4-TL-H; Channel Polarity: N Channel; IDSS Max (uA): 240; IDSS Min (uA): 140; PackageVersion: Rev. O, 02/2012; PackageReference: USFP-3-524AC; PackageDescription: 3-Pin Small Outline Transistor, Body 0.8 x 0.6 mm, Pitch 0.175 mm; Supplier 1: Digi-Key; Supplier Part Number 1: TF252-4-TL-H-ND; Supplier 2: Mouser; Supplier Part Number 2: 863-TF252-4-TL-H; Packing: Tape and Reel; RoHS: Pb-Free; Mounting Technology: Surface Mount; ComponentLink1Description: Manufacturer URL; ComponentLink1URL: http://www.onsemi.com/; ComponentLink2Description: Datasheet; ComponentLink2URL: http://www.onsemi.com/pub_link/Collateral/ENA0841-D.PDF; ComponentLink3Description: Package Specification; ComponentLink3URL: http://www.onsemi.com/pub_link/Collateral/524AC.PDF
footprint ONSC-USFP-3-524AC_V (SOT223, 3-Leads, Body 0.8x0.6mm, Pitch 0.4mm)
pins: 1 D, 2 S, 3 G

## TF252-5-TL-H
designator Q?
N-Channel JFET, 20 V, 210 to 350 uA, 1.4 mS, 3-Pin USFP, Pb-Free, Tape and Reel; Manufacturer: On Semiconductor; PartNumber: TF252-5-TL-H; Channel Polarity: N Channel; IDSS Max (uA): 350; IDSS Min (uA): 210; PackageVersion: Rev. O, 02/2012; PackageReference: USFP-3-524AC; PackageDescription: 3-Pin Small Outline Transistor, Body 0.8 x 0.6 mm, Pitch 0.175 mm; Supplier 1: Digi-Key; Supplier Part Number 1: TF252-5-TL-H-ND; Supplier 2: Mouser; Supplier Part Number 2: 863-TF252-5-TL-H; Packing: Tape and Reel; RoHS: Pb-Free; Mounting Technology: Surface Mount; ComponentLink1Description: Manufacturer URL; ComponentLink1URL: http://www.onsemi.com/; ComponentLink2Description: Datasheet; ComponentLink2URL: http://www.onsemi.com/pub_link/Collateral/ENA0841-D.PDF; ComponentLink3Description: Package Specification; ComponentLink3URL: http://www.onsemi.com/pub_link/Collateral/524AC.PDF
footprint ONSC-USFP-3-524AC_V (SOT223, 3-Leads, Body 0.8x0.6mm, Pitch 0.4mm)
pins: 1 D, 2 S, 3 G

## TF252TH-4-TL-H
designator Q?
N-Channel JFET, 20 V, 140 to 240 uA, 1.4 mS, 3-Pin VTFP, Pb-Free, Tape and Reel; Manufacturer: On Semiconductor; PartNumber: TF252TH-4-TL-H; Channel Polarity: N Channel; IDSS Max (uA): 240; IDSS Min (uA): 140; PackageReference: VTFP-3; PackageDescription: 3-Pin Small Outline Transistor, Body 1.4 x 0.8 mm, Pitch 0.45 mm; Supplier 1: Digi-Key; Supplier Part Number 1: TF252TH-4-TL-H-ND; Supplier 2: Mouser; Supplier Part Number 2: 863-TF252TH-4-TL-H; Packing: Tape and Reel; RoHS: Pb-Free; Mounting Technology: Surface Mount; ComponentLink1Description: Manufacturer URL; ComponentLink1URL: http://www.onsemi.com/; ComponentLink2Description: Datasheet; ComponentLink2URL: http://www.onsemi.com/pub_link/Collateral/TF252TH-D.PDF; ComponentLink3Description: Package Specification; ComponentLink3URL: http://www.onsemi.com/pub_link/Collateral/TF252TH-D.PDF
footprint ONSC-VTFP-3_V (SOT23, 3-Leads, Body 1.4x0.8mm, Pitch 0.45mm)
pins: 1 D, 2 S, 3 G

## TF252TH-5-TL-H
designator Q?
N-Channel JFET, 20 V, 210 to 350 uA, 1.4 mS, 3-Pin VTFP, Pb-Free, Tape and Reel; Manufacturer: On Semiconductor; PartNumber: TF252TH-5-TL-H; Channel Polarity: N Channel; IDSS Max (uA): 350; IDSS Min (uA): 210; PackageVersion: Rev. O, 02/2012; PackageReference: VTFP-3-631AD; PackageDescription: 3-Pin Small Outline Transistor, Body 1.4 x 0.8 mm, Pitch 0.45 mm; Supplier 1: Digi-Key; Supplier Part Number 1: 869-1205-2-ND; Supplier 2: Digi-Key; Supplier Part Number 2: 869-1205-1-ND; Supplier 3: Digi-Key; Supplier Part Number 3: 869-1205-6-ND; Supplier 4: Mouser; Supplier Part Number 4: 863-TF252TH-5-TL-H; Packing: Tape and Reel; RoHS: Pb-Free; Mounting Technology: Surface Mount; ComponentLink1Description: Manufacturer URL; ComponentLink1URL: http://www.onsemi.com/; ComponentLink2Description: Datasheet; ComponentLink2URL: http://www.onsemi.com/pub_link/Collateral/TF252TH-D.PDF; ComponentLink3Description: Package Specification; ComponentLink3URL: http://www.onsemi.com/pub_link/Collateral/631AD.PDF
footprint ONSC-VTFP-3-631AD_N (SOT223, 3-Leads, Body 1.46x0.86mm, Pitch 0.45mm, IPC Medium Density)
footprint ONSC-VTFP-3-631AD_L (SOT223, 3-Leads, Body 1.46x0.86mm, Pitch 0.45mm, IPC High Density)
footprint ONSC-VTFP-3-631AD_M (SOT223, 3-Leads, Body 1.46x0.86mm, Pitch 0.45mm, IPC Low Density)
pins: 1 D, 2 S, 3 G

## TF256-3-TL-H
designator Q?
N-Channel JFET, 20 V, 100 to 180 uA, 1.7 mS, 3-Pin USFP, Pb-Free, Tape and Reel; Manufacturer: On Semiconductor; PartNumber: TF256-3-TL-H; Channel Polarity: N Channel; IDSS Max (uA): 180; IDSS Min (uA): 100; PackageVersion: Rev. O, 02/2012; PackageReference: USFP-3-524AC; PackageDescription: 3-Pin Small Outline Transistor, Body 0.8 x 0.6 mm, Pitch 0.175 mm; Supplier 1: Digi-Key; Supplier Part Number 1: TF256-3-TL-H-ND; Supplier 2: Mouser; Supplier Part Number 2: 863-TF256-3-TL-H; Packing: Tape and Reel; RoHS: Pb-Free; Mounting Technology: Surface Mount; ComponentLink1Description: Manufacturer URL; ComponentLink1URL: http://www.onsemi.com/; ComponentLink2Description: Datasheet; ComponentLink2URL: http://www.onsemi.com/pub_link/Collateral/ENA1616-D.PDF; ComponentLink3Description: Package Specification; ComponentLink3URL: http://www.onsemi.com/pub_link/Collateral/524AC.PDF
footprint ONSC-USFP-3-524AC_V (SOT223, 3-Leads, Body 0.8x0.6mm, Pitch 0.4mm)
pins: 1 D, 2 S, 3 G

## TF256-4-TL-H
designator Q?
N-Channel JFET, 20 V, 140 to 280 uA, 1.7 mS, 3-Pin USFP, Pb-Free, Tape and Reel; Manufacturer: On Semiconductor; PartNumber: TF256-4-TL-H; Channel Polarity: N Channel; IDSS Max (uA): 280; IDSS Min (uA): 140; PackageVersion: Rev. O, 02/2012; PackageReference: USFP-3-524AC; PackageDescription: 3-Pin Small Outline Transistor, Body 0.8 x 0.6 mm, Pitch 0.175 mm; Supplier 1: Digi-Key; Supplier Part Number 1: TF256-4-TL-H-ND; Supplier 2: Mouser; Supplier Part Number 2: 863-TF256-4-TL-H; Packing: Tape and Reel; RoHS: Pb-Free; Mounting Technology: Surface Mount; ComponentLink1Description: Manufacturer URL; ComponentLink1URL: http://www.onsemi.com/; ComponentLink2Description: Datasheet; ComponentLink2URL: http://www.onsemi.com/pub_link/Collateral/ENA1616-D.PDF; ComponentLink3Description: Package Specification; ComponentLink3URL: http://www.onsemi.com/pub_link/Collateral/524AC.PDF
footprint ONSC-USFP-3-524AC_V (SOT223, 3-Leads, Body 0.8x0.6mm, Pitch 0.4mm)
pins: 1 D, 2 S, 3 G

## TF256-5-TL-H
designator Q?
N-Channel JFET, 20 V, 240 to 450 uA, 1.7 mS, 3-Pin USFP, Pb-Free, Tape and Reel; Manufacturer: On Semiconductor; PartNumber: TF256-5-TL-H; Channel Polarity: N Channel; IDSS Max (uA): 450; IDSS Min (uA): 240; PackageVersion: Rev. O, 02/2012; PackageReference: USFP-3-524AC; PackageDescription: 3-Pin Small Outline Transistor, Body 0.8 x 0.6 mm, Pitch 0.175 mm; Supplier 1: Digi-Key; Supplier Part Number 1: TF256-5-TL-H-ND; Supplier 2: Mouser; Supplier Part Number 2: 863-TF256-5-TL-H; Packing: Tape and Reel; RoHS: Pb-Free; Mounting Technology: Surface Mount; ComponentLink1Description: Manufacturer URL; ComponentLink1URL: http://www.onsemi.com/; ComponentLink2Description: Datasheet; ComponentLink2URL: http://www.onsemi.com/pub_link/Collateral/ENA1616-D.PDF; ComponentLink3Description: Package Specification; ComponentLink3URL: http://www.onsemi.com/pub_link/Collateral/524AC.PDF
footprint ONSC-USFP-3-524AC_V (SOT223, 3-Leads, Body 0.8x0.6mm, Pitch 0.4mm)
pins: 1 D, 2 S, 3 G

## TF256TH-3-TL-H
designator Q?
N-Channel JFET, 20 V, 100 to 180 uA, 1.7 mS, 3-Pin VTFP, Pb-Free, Tape and Reel; Manufacturer: On Semiconductor; PartNumber: TF256TH-3-TL-H; Channel Polarity: N Channel; IDSS Max (uA): 180; IDSS Min (uA): 100; PackageReference: VTFP-3; PackageDescription: 3-Pin Small Outline Transistor, Body 1.4 x 0.8 mm, Pitch 0.45 mm; Supplier 1: Digi-Key; Supplier Part Number 1: TF256TH-3-TL-H-ND; Supplier 2: Newark; Supplier Part Number 2: 07W7446; Supplier 3: Mouser; Supplier Part Number 3: 863-TF256TH-3-TL-H; Packing: Tape and Reel; RoHS: Pb-Free; Mounting Technology: Surface Mount; ComponentLink1Description: Manufacturer URL; ComponentLink1URL: http://www.onsemi.com/; ComponentLink2Description: Datasheet; ComponentLink2URL: http://www.onsemi.com/pub_link/Collateral/ENA1617-D.PDF; ComponentLink3Description: Package Specification; ComponentLink3URL: http://www.onsemi.com/pub_link/Collateral/TF252TH-D.PDF
footprint ONSC-VTFP-3_V (SOT23, 3-Leads, Body 1.4x0.8mm, Pitch 0.45mm)
pins: 1 D, 2 S, 3 G

## TF256TH-4-TL-H
designator Q?
N-Channel JFET, 20 V, 140 to 280 uA, 1.7 mS, 3-Pin VTFP, Pb-Free, Tape and Reel; Manufacturer: On Semiconductor; PartNumber: TF256TH-4-TL-H; Channel Polarity: N Channel; IDSS Max (uA): 280; IDSS Min (uA): 140; PackageReference: VTFP-3; PackageDescription: 3-Pin Small Outline Transistor, Body 1.4 x 0.8 mm, Pitch 0.45 mm; Supplier 1: Digi-Key; Supplier Part Number 1: TF256TH-4-TL-H-ND; Supplier 2: Mouser; Supplier Part Number 2: 863-TF256TH-4-TL-H; Packing: Tape and Reel; RoHS: Pb-Free; Mounting Technology: Surface Mount; ComponentLink1Description: Manufacturer URL; ComponentLink1URL: http://www.onsemi.com/; ComponentLink2Description: Datasheet; ComponentLink2URL: http://www.onsemi.com/pub_link/Collateral/ENA1617-D.PDF; ComponentLink3Description: Package Specification; ComponentLink3URL: http://www.onsemi.com/pub_link/Collateral/TF252TH-D.PDF
footprint ONSC-VTFP-3_V (SOT23, 3-Leads, Body 1.4x0.8mm, Pitch 0.45mm)
pins: 1 D, 2 S, 3 G

## TF256TH-5-TL-H
designator Q?
N-Channel JFET, 20 V, 240 to 450 uA, 1.7 mS, 3-Pin VTFP, Pb-Free, Tape and Reel; Manufacturer: On Semiconductor; PartNumber: TF256TH-5-TL-H; Channel Polarity: N Channel; IDSS Max (uA): 450; IDSS Min (uA): 240; PackageReference: VTFP-3; PackageDescription: 3-Pin Small Outline Transistor, Body 1.4 x 0.8 mm, Pitch 0.45 mm; Supplier 1: Digi-Key; Supplier Part Number 1: TF256TH-5-TL-H-ND; Supplier 2: Mouser; Supplier Part Number 2: 863-TF256TH-5-TL-H; Packing: Tape and Reel; RoHS: Pb-Free; Mounting Technology: Surface Mount; ComponentLink1Description: Manufacturer URL; ComponentLink1URL: http://www.onsemi.com/; ComponentLink2Description: Datasheet; ComponentLink2URL: http://www.onsemi.com/pub_link/Collateral/ENA1617-D.PDF; ComponentLink3Description: Package Specification; ComponentLink3URL: http://www.onsemi.com/pub_link/Collateral/TF252TH-D.PDF
footprint ONSC-VTFP-3_V (SOT23, 3-Leads, Body 1.4x0.8mm, Pitch 0.45mm)
pins: 1 D, 2 S, 3 G

## TF408-2-TL-H
designator Q?
N-Channel JFET, 30 V, 0.6 to 1.5 mA, 5 mS, 3-Pin USFP, Pb-Free, Tape and Reel; Manufacturer: On Semiconductor; PartNumber: TF408-2-TL-H; Channel Polarity: N Channel; IDSS Max (uA): 1500; IDSS Min (uA): 600; PackageVersion: Rev. O, 02/2012; PackageReference: USFP-3-524AC; PackageDescription: 3-Pin Small Outline Transistor, Body 0.8 x 0.6 mm, Pitch 0.175 mm; Supplier 1: Digi-Key; Supplier Part Number 1: TF408-2-TL-H-ND; Supplier 2: Mouser; Supplier Part Number 2: 863-TF408-2-TL-H; Packing: Tape and Reel; RoHS: Pb-Free; Mounting Technology: Surface Mount; ComponentLink1Description: Manufacturer URL; ComponentLink1URL: http://www.onsemi.com/; ComponentLink2Description: Datasheet; ComponentLink2URL: http://www.onsemi.com/pub_link/Collateral/ENA2008-D.PDF; ComponentLink3Description: Package Specification; ComponentLink3URL: http://www.onsemi.com/pub_link/Collateral/524AC.PDF
footprint ONSC-USFP-3-524AC_V (SOT223, 3-Leads, Body 0.8x0.6mm, Pitch 0.4mm)
pins: 1 S, 2 D, 3 G

## TF408-3-TL-H
designator Q?
N-Channel JFET, 30 V, 1.2 to 3 mA, 5 mS, 3-Pin USFP, Pb-Free, Tape and Reel; Manufacturer: On Semiconductor; PartNumber: TF408-3-TL-H; Channel Polarity: N Channel; IDSS Max (uA): 3000; IDSS Min (uA): 1200; PackageVersion: Rev. O, 02/2012; PackageReference: USFP-3-524AC; PackageDescription: 3-Pin Small Outline Transistor, Body 0.8 x 0.6 mm, Pitch 0.175 mm; Supplier 1: Digi-Key; Supplier Part Number 1: TF408-3-TL-H-ND; Supplier 2: Mouser; Supplier Part Number 2: 863-TF408-3-TL-H; Packing: Tape and Reel; RoHS: Pb-Free; Mounting Technology: Surface Mount; ComponentLink1Description: Manufacturer URL; ComponentLink1URL: http://www.onsemi.com/; ComponentLink2Description: Datasheet; ComponentLink2URL: http://www.onsemi.com/pub_link/Collateral/ENA2008-D.PDF; ComponentLink3Description: Package Specification; ComponentLink3URL: http://www.onsemi.com/pub_link/Collateral/524AC.PDF
footprint ONSC-USFP-3-524AC_V (SOT223, 3-Leads, Body 0.8x0.6mm, Pitch 0.4mm)
pins: 1 S, 2 D, 3 G

## TF410-TL-H
designator Q?
N-Channel JFET, 40 V, 55 to 130 uA, 0.11 mS, 3-Pin USFP, Pb-Free, Tape and Reel; Manufacturer: On Semiconductor; PartNumber: TF410-TL-H; Channel Polarity: N Channel; IDSS Max (uA): 130; IDSS Min (uA): 50; PackageVersion: Rev. O, 02/2012; PackageReference: USFP-3-524AC; PackageDescription: 3-Pin Small Outline Transistor, Body 0.8 x 0.6 mm, Pitch 0.175 mm; Supplier 1: Digi-Key; Supplier Part Number 1: TF410-TL-H-ND; Supplier 2: Newark; Supplier Part Number 2: 07W7449; Supplier 3: Mouser; Supplier Part Number 3: 863-TF410-TL-H; Packing: Tape and Reel; RoHS: Pb-Free; Mounting Technology: Surface Mount; ComponentLink1Description: Manufacturer URL; ComponentLink1URL: http://www.onsemi.com/; ComponentLink2Description: Datasheet; ComponentLink2URL: http://www.onsemi.com/pub_link/Collateral/ENA2007-D.PDF; ComponentLink3Description: Package Specification; ComponentLink3URL: http://www.onsemi.com/pub_link/Collateral/524AC.PDF
footprint ONSC-USFP-3-524AC_V (SOT223, 3-Leads, Body 0.8x0.6mm, Pitch 0.4mm)
pins: 1 S, 2 D, 3 G